# EAGLE library part MILLI-GRID-12 (library con-molex)
Milli-Grid Pin Header 2.00mm (.079") Pitch
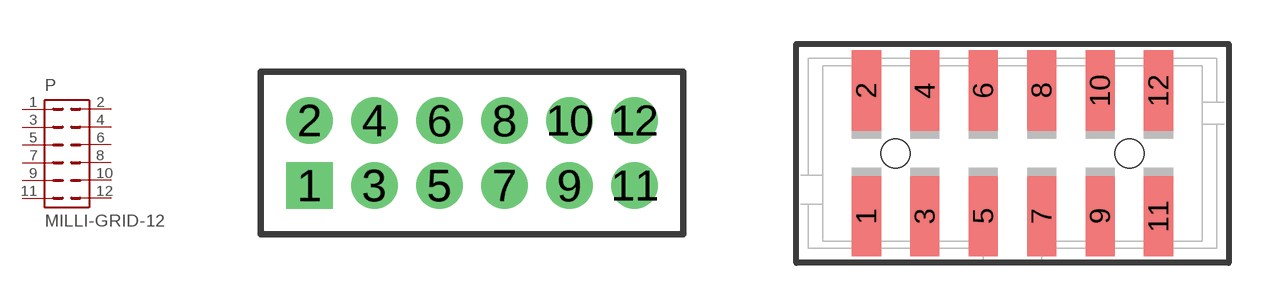
[diagram p54: symbol with the pads of 87758-12; footprints 87758-12, 87832-12]

Designator prefix P

## MILLI-GRID-12-87758  [87758-12]
1  1  pas
2  2  pas
3  3  pas
4  4  pas
5  5  pas
6  6  pas
7  7  pas
8  8  pas
9  9  pas
10  10  pas
11  11  pas
12  12  pas

## MILLI-GRID-12-87832  [87832-12]
Pads as for 87758-12

## MILLI-GRID-12-87759  [87759-12]
Pads as for 87758-12

## MILLI-GRID-12-79109  [79109-12]
Pads as for 87758-12

## MILLI-GRID-12-87340  [87340-12]
Pads as for 87758-12

## MILLI-GRID-12-79107  [79107-12]
Pads as for 87758-12

## MILLI-GRID-12-87264  [87264-12]
Pads as for 87758-12

## MILLI-GRID-12-87368  [87368-12]
Pads as for 87758-12

## Footprint 87758-12 (pad centres in mm)
PCB Pin Headers 2.00mm (.079") Pitch Milli-Grid Header, Vertical
drill 0.914 square: 1 -5,-1
drill 0.914: 2 -5,1; 3 -3,-1; 4 -3,1; 5 -1,-1; 6 -1,1; 7 1,-1; 8 1,1; 9 3,-1; 10 3,1; 11 5,-1; 12 5,1

## Footprint 87832-12 (pad centres in mm)
PCB Headers 2.00mm (.079") Pitch Milli-Grid Header, Vertical, Shrouded
smd 1 x 2.75: 1 -5,-2.15; 2 -5,2.15; 3 -3,-2.15; 4 -3,2.15; 5 -1,-2.15; 6 -1,2.15; 7 1,-2.15; 8 1,2.15; 9 3,-2.15; 10 3,2.15; 11 5,-2.15; 12 5,2.15
hole 1 at -4,0
hole 1 at 4,0

## Footprint 87759-12 (pad centres in mm)
PCB Pin Headers 2.00mm (.079") Pitch Milli-Grid Header, Vertical SMD
smd 1 x 2.75: 1 -5,-2.15; 2 -5,2.15; 3 -3,-2.15; 4 -3,2.15; 5 -1,-2.15; 6 -1,2.15; 7 1,-2.15; 8 1,2.15; 9 3,-2.15; 10 3,2.15; 11 5,-2.15; 12 5,2.15
hole 1 at -4,0
hole 1 at 4,0

## Footprint 79109-12 (pad centres in mm)
Board-to-Board Receptacal 2.00mm (.079") Pitch Milli-Grid Header, Vertical, Top/Bottom Entry Mates with: 87758, 87759, 87760, 87831, 87832, 87833
smd 1.12 x 1.83: 1 -5,-2.65; 2 -5,2.65; 3 -3,-2.65; 4 -3,2.65; 5 -1,-2.65; 6 -1,2.65; 7 1,-2.65; 8 1,2.65; 9 3,-2.65; 10 3,2.65; 11 5,-2.65; 12 5,2.65
hole 0.914 at -4,0
hole 0.914 at -5,1
hole 0.914 at -5,-1
hole 0.914 at -3,-1
hole 0.914 at -3,1
hole 0.914 at -1,-1
hole 0.914 at -1,1
hole 0.914 at 4,0
hole 0.914 at 1,1
hole 0.914 at 1,-1
hole 0.914 at 3,1
hole 0.914 at 3,-1
hole 0.914 at 5,1
hole 0.914 at 5,-1

## Footprint 87340-12 (pad centres in mm)
Board-To-Board Receptacal 2.00mm (.079") Pitch Milli-Grid Header, Vertical, Top/Bottom Entry Mates with: 87758, 87759, 87760, 87831, 87832, 87833
smd 1 x 1.75: 1 -5,-2.5; 2 -5,2.5; 3 -3,-2.5; 4 -3,2.5; 5 -1,-2.5; 6 -1,2.5; 7 1,-2.5; 8 1,2.5; 9 3,2.5; 10 3,-2.5; 11 5,-2.5; 12 5,2.5
hole 0.914 at -6,0
hole 0.914 at -5,1
hole 0.914 at -5,-1
hole 0.914 at -3,-1
hole 0.914 at -3,1
hole 0.914 at 6,0
hole 0.914 at -1,1
hole 0.914 at -1,-1
hole 0.914 at 1,1
hole 0.914 at 1,-1
hole 0.914 at 3,-1
hole 0.914 at 3,1
hole 0.914 at 5,1
hole 0.914 at 5,-1

## Footprint 79107-12 (pad centres in mm)
Board-To-Board Receptacal 2.00mm (.079") Pitch Milli-Grid Header, Vertical, Through-Hole Mates with: 87759, 87762, 87758, 87760
drill 0.914 square: 1 -5,-1
drill 0.914: 2 -5,1; 3 -3,-1; 4 -3,1; 5 -1,-1; 6 -1,1; 7 1,-1; 8 1,1; 9 3,-1; 10 3,1; 11 5,-1; 12 5,1

## Footprint 87264-12 (pad centres in mm)
Board-To-Board Receptacal 2.00mm (.079") Pitch Milli-Grid Header, Side Entry Mates with 2mm(.079") Mill-Grid Header
drill 0.914 square: 1 -5,-2.25
drill 0.914: 2 -5,2.25; 3 -3,-2.25; 4 -3,2.25; 5 -1,-2.25; 6 -1,2.25; 7 1,-2.25; 8 1,2.25; 9 3,-2.25; 10 3,2.25; 11 5,-2.25; 12 5,2.25

## Footprint 87368-12 (pad centres in mm)
Board-To-Board Receptacal 2.00mm (.079") Pitch Milli-Grid Header, Side Entry SMD Mates with 2mm(.079") Mill-Grid Header
smd 1 x 2.8: 1 -5,-3.1; 2 -5,3.1; 3 -3,-3.1; 4 -3,3.1; 5 -1,-3.1; 6 -1,3.1; 7 1,-3.1; 8 1,3.1; 9 3,-3.1; 10 3,3.1; 11 5,-3.1; 12 5,3.1
hole 0.914 at -5,0
hole 0.914 at 0,0